# EAGLE library part AQX21444 (library relay-mod)
PhotoMOS Relay NAiS Source: http://www.mew-europe.com/.. pti_en.pdf
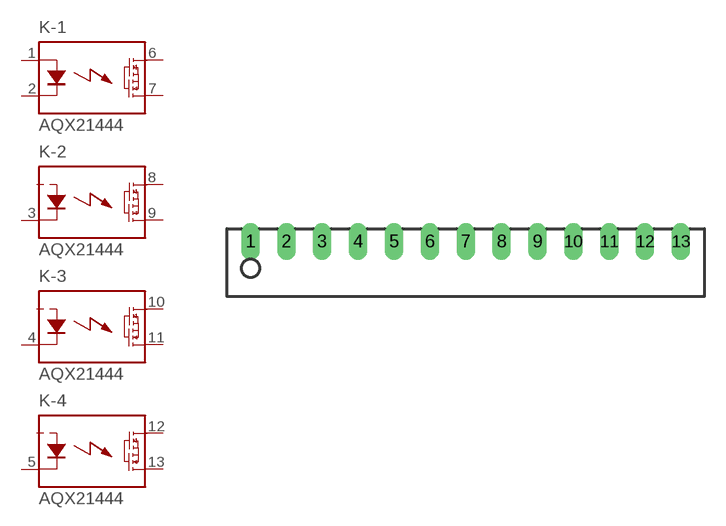
[diagram p46: symbol with the pads of SIL13; footprint SIL13]

Designator prefix K; gates -1=PHOTOMOS_2D -2=PHOTOMOS-DC3 -3=PHOTOMOS-DC3 -4=PHOTOMOS-DC3

## AQX21444 (OC_FARNELL: unknown; OC_NEWARK: unknown)  [SIL13]
1  -1:A  pas
2  -1:K  pas
3  -2:K  pas
4  -3:K  pas
5  -4:K  pas
6  -1:DS1  pas
7  -1:DS2  pas
8  -2:DS1  pas
9  -2:DS2  pas
10  -3:DS1  pas
11  -3:DS2  pas
12  -4:DS1  pas
13  -4:DS2  pas

## Footprint SIL13 (pad centres in mm)
SIL 13 - AQX21.44 Series (Multi-channel) Source: http://www.mew-europe.com/.. pti_en.pdf
drill 0.8 long: 1 -15.24,1.27; 2 -12.7,1.27; 3 -10.16,1.27; 4 -7.62,1.27; 5 -5.08,1.27; 6 -2.54,1.27; 7 0,1.27; 8 2.54,1.27; 9 5.08,1.27; 10 7.62,1.27; 11 10.16,1.27; 12 12.7,1.27; 13 15.24,1.27